# EAGLE library part CAT24C256WI-GT3 (library CAT24C256WI-GT3)
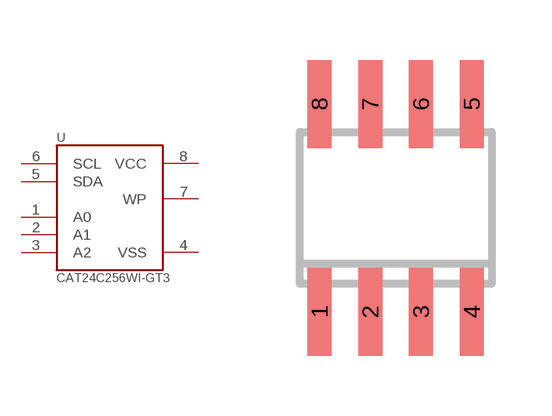
[diagram p0: symbol with the pads of SO-08; footprint SO-08]

Designator prefix U

## CAT24C256WI-GT3  [SO-08]
1  A0
2  A1
3  A2
4  VSS
5  SDA
6  SCL
7  WP
8  VCC

## Footprint SO-08 (pad centres in mm)
Small Outline Narrow Plastic Gull Wing 150-mil body, package type SN
smd 0.6 x 2.2: 1 -1.905,-2.6; 2 -0.635,-2.6; 3 0.635,-2.6; 4 1.905,-2.6; 5 1.905,2.6; 6 0.635,2.6; 7 -0.635,2.6; 8 -1.905,2.6